# Altium schematic symbol library 0.1uF Capacitor.SchLib: 1 symbol
Pins are listed as number, name and electrical type; pins without a type are passive.

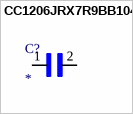
[diagram p0: symbol CC1206JRX7R9BB104]

## CC1206JRX7R9BB104
designator C?
No Description Available; Mfr_Name: Yageo
footprint 0.1uF Capacitor
pins: 1, 2